# Altium integrated library Microchip Power Management Battery Management.IntLib: 224 symbols (part 7 of 7)
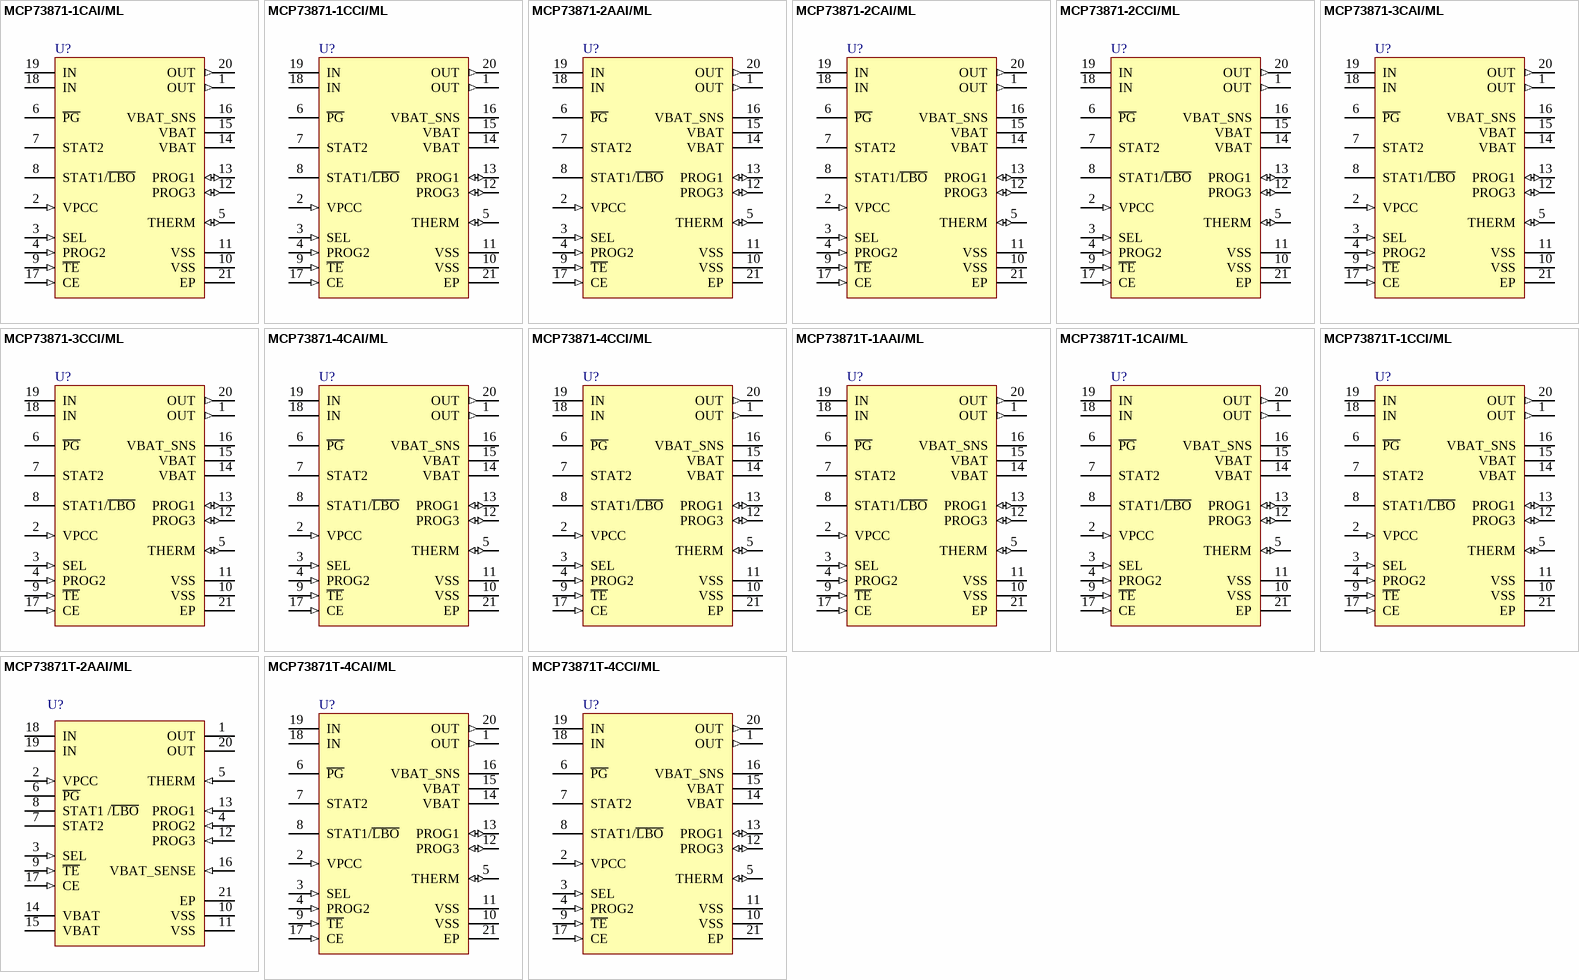
[diagram p12: symbols MCP73871-1CAI/ML to MCP73871T-4CCI/ML]

## MCP73871T-4CCI/ML
designator U?
Stand-Alone System Load Sharing and Li-Ion/Li-Polymer Battery Charge Management Controller, 4.4V, 20-Pin QFN, Industrial Temperature, Tape and Reel; Manufacturer: Microchip; PartNumber: MCP73871T-4CCI/ML; DatasheetVersion: revB, May-2009; PackageVersion: revBB, Aug-2009; PackageReference: QFN-ML20; PackageDescription: 20-Lead Plastic Quad Flat, No Lead Package (ML) - 4x4x0.9 mm Body [QFN]; Mounting Technology: Surface Mount; ComponentLink1Description: Manufacturer URL; ComponentLink1URL: http://www.microchip.com/; ComponentLink2Description: Datasheet; ComponentLink2URL: http://ww1.microchip.com/downloads/en/DeviceDoc/22090b.pdf; ComponentLink3Description: Package Specification; ComponentLink3URL: http://www.microchip.com/stellent/groups/techpub_sg/documents/packagingspec/en012702.pdf
footprint QFN-ML20_N (QFN, 20-Leads, Body 4x4mm, Pitch 0.5mm, Thermal Pad 2.8x2.8mm, IPC Medium Density)
footprint QFN-ML20_L (QFN, 20-Leads, Body 4x4mm, Pitch 0.5mm, Thermal Pad 2.8x2.8mm, IPC High Density)
footprint QFN-ML20_M (QFN, 20-Leads, Body 4x4mm, Pitch 0.5mm, Thermal Pad 2.8x2.8mm, IPC Low Density)
pins: 1 OUT (out), 2 VPCC (in), 3 SEL (in), 4 PROG2 (in), 5 THERM (io), 6 ~{PG} (oc), 7 STAT2 (oc), 8 STAT1/~{LBO} (oc), 9 ~{TE} (in), 10 VSS (power), 11 VSS (power), 12 PROG3 (io), 13 PROG1 (io), 14 VBAT (power), 15 VBAT (power), 16 VBAT_SNS (power), 17 CE (in), 18 IN (power), 19 IN (power), 20 OUT (out), 21 EP (power)